# Altium integrated library Libreria-Inductores.IntLib: 3 symbols
Pins are listed as number, name and electrical type; pins without a type are passive.

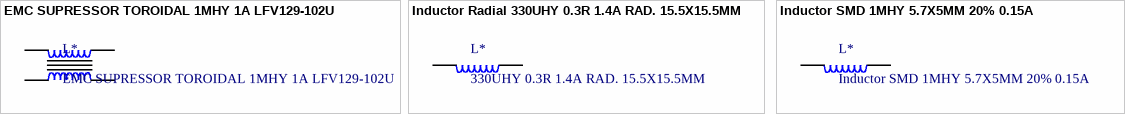
[diagram p0: symbols EMC SUPRESSOR TOROIDAL 1MHY 1A LFV129-102U to Inductor SMD 1MHY 5.7X5MM 20% 0.15A]

## EMC SUPRESSOR TOROIDAL 1MHY 1A LFV129-102U
designator L*
COD. ELEMON: FI1489700
footprint EMC SUPPRESSOR (EMC SUPPRESSOR LF V-102 U-1A)
pins: 1, 2, 3, 4

## Inductor Radial 330UHY 0.3R 1.4A RAD. 15.5X15.5MM
designator L*, comment 330UHY 0.3R 1.4A RAD. 15.5X15.5MM
COD. ELEMON: FI1537220; COD. FV: CE.IND.0002
footprint Inductor Radial DR1213
pins: 1, 2

## Inductor SMD 1MHY 5.7X5MM 20% 0.15A
designator L*
COD. ELEMON: FI1513590; COD. FV: CE.IND.0001
footprint Inductor SMD 5.7X5MM
pins: 1, 2